# Altium schematic symbol library TPSA474K050R6500.SchLib: 1 symbol
Pins are listed as number, name and electrical type; pins without a type are passive.

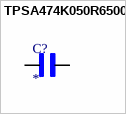
[diagram p0: symbol TPSA474K050R6500]

## TPSA474K050R6500
designator C?
Tantalum Capacitors; MF: AVX; MP: TPSA474K050R6500; SnapEDA_Link: https://www.snapeda.com/parts/TPSA474K050R6500/AVX/view-part/?ref=snap; Package: 1206 AVX; Value: *; Check_prices: https://www.snapeda.com/parts/TPSA474K050R6500/AVX/view-part/?ref=eda
footprint CAPMP3216X166
pins: 1, 2